# Altium integrated library DE2E3SA102MN3AY02F.IntLib: 1 symbol
Pins are listed as number, name and electrical type; pins without a type are passive.

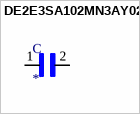
[diagram p0: symbol DE2E3SA102MN3AY02F]

## DE2E3SA102MN3AY02F
designator C
Lead Capacitor E(JIS) with Capacitance: 1000pF and Rated Voltage: 400Vac(r.m.s.); MP: DE2E3SA102MN3AY02F; MF: Murata; Package: Radial Murata; SnapEDA_Link: https://www.snapeda.com/parts/DE2E3SA102MN3AY02F/Murata/view-part/4546572/?ref=snap; Digi-Key_Part_Number: 490-16237-1-ND; Mouser-Purchase-URL: https://snapeda.com/shop?store=Mouser&id=4546572; Value: *
footprint CAP_DE2E3SA102MN3AY02F
pins: 1, 2